# EAGLE library part LT3465 (library linear_tech_opendcc)
LT3465A - 2.4MHz White LED Step-Up Converters with Built-In Schottky in ThinSOT Inherently Matched LED Current Drives Up to Six LEDs from a 3.6V Supply No External Schottky Diode Required 1.2MHz Switching Frequency (LT3465) 2.4MHz Switching Frequency Above AM Broadcast Band (LT3465A) VIN Range: 2.7V to 16V VOUT(MAX) = 30V Automatic Soft-Start (LT3465) Open LED Protection High Efficiency: 81% (LT3465) 79% (LT3465A) Typical Requires Only 0.22µF Output Capacitor Low Profile (1mm) SOT-23 Packaging
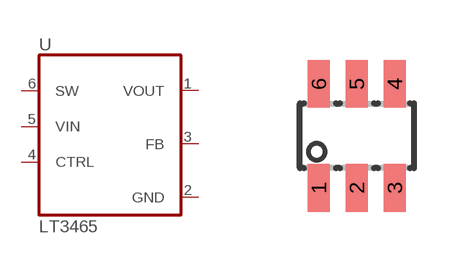
[diagram p10: symbol with the pads of SOT23-6; footprint SOT23-6]

Designator prefix -

## LT3465  [SOT23-6]
1  VOUT  out
2  GND  pwr
3  FB  out
4  CTRL  in
5  VIN  in
6  SW  in

## Footprint SOT23-6 (pad centres in mm)
smd 0.55 x 1.2: 1 -0.95,-1.3; 2 0,-1.3; 3 0.95,-1.3; 4 0.95,1.3; 5 0,1.3; 6 -0.95,1.3